# Altium schematic symbol library Optoelectronics.SchLib: 3 symbols
Pins are listed as number, name and electrical type; pins without a type are passive.

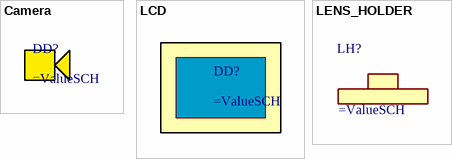
[diagram p0: symbols Camera to LENS_HOLDER]

## Camera
designator DD?

## LCD
designator DD?

## LENS_HOLDER
designator LH?